# Altium footprint library Conn Receptacle Single Row.PcbLib: 38 footprints (part 1 of 3)
Each footprint in its own frame and in the unit in brackets; x right, y up, seen from the top. Pads: shape width x height; smd on the part's side, far side on the other; paste and mask are expansions set on the pad; w line width, h text height; cw(c..) or ccw(c..) is an arc to the next point about the centre after c.
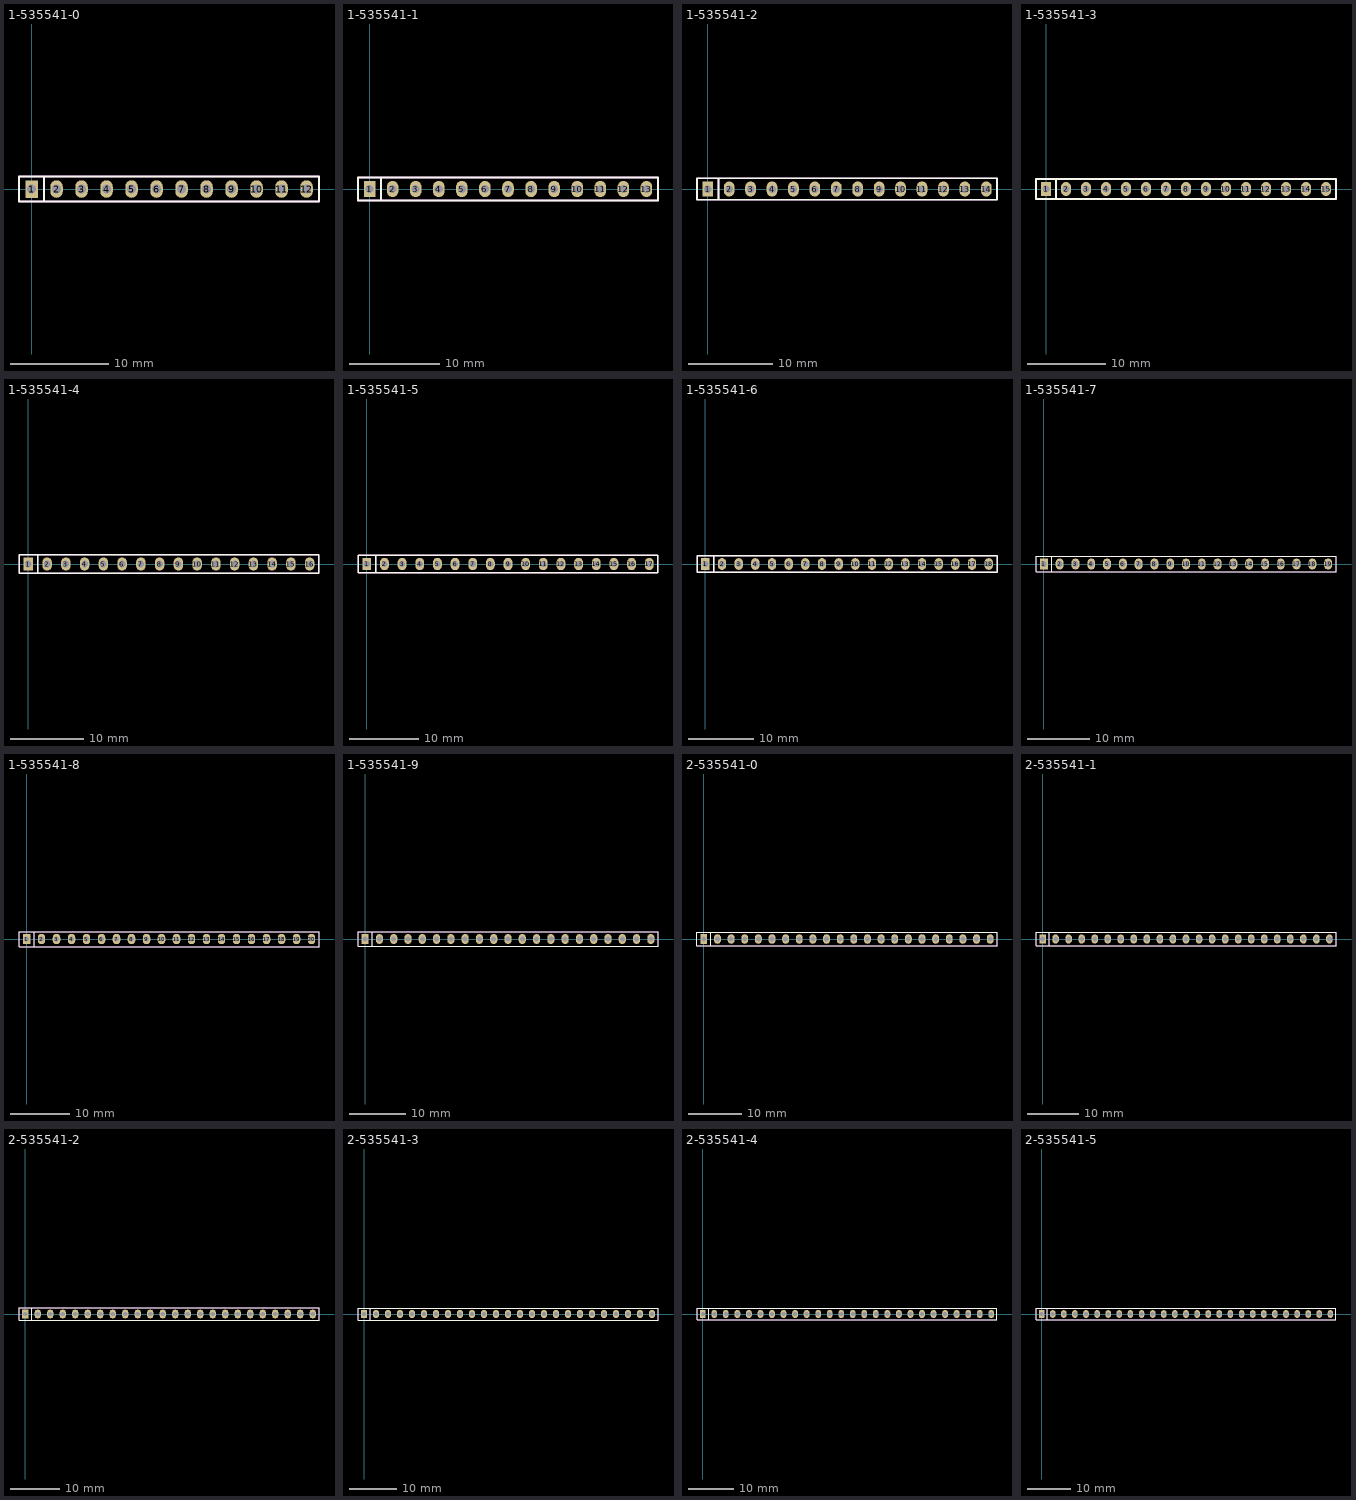
[diagram p0: the footprints below, top view; thin cyan lines are the x and y axes]

## 1-535541-0 [mil] "CONN Receptacle Single Row Gold"
pads (12):
  rect 50x70 hole 35: 1(0,0)
  oval 50x70 hole 35: 2(100,0) 3(200,0) 4(300,0) 5(400,0) 6(500,0) 7(600,0) 8(700,0) 9(800,0) 10(900,0) 11(1000,0) 12(1100,0)
Top Overlay:
  lines w7.87: 50,-50 50,50 ; -50,-50 -50,50 1150,50 1150,-50 -50,-50
Mechanical 1:
  lines w7.87: 50,-50 50,50 ; -50,-50 1150,-50 1150,50 -50,50 -50,-50

## 1-535541-1 [mil] "CONN Receptacle Single Row Gold"
pads (13):
  rect 50x70 hole 35: 1(0,0)
  oval 50x70 hole 35: 2(100,0) 3(200,0) 4(300,0) 5(400,0) 6(500,0) 7(600,0) 8(700,0) 9(800,0) 10(900,0) 11(1000,0) 12(1100,0) 13(1200,0)
Top Overlay:
  lines w7.87: 50,-50 50,50 ; -50,-50 1250,-50 1250,50 -50,50 -50,-50
Mechanical 1:
  lines w7.87: 50,-50 50,50 ; -50,-50 -50,50 1250,50 1250,-50 -50,-50

## 1-535541-2 [mil] "CONN Receptacle Single Row Gold"
pads (14):
  rect 50x70 hole 35: 1(0,0)
  oval 50x70 hole 35: 2(100,0) 3(200,0) 4(300,0) 5(400,0) 6(500,0) 7(600,0) 8(700,0) 9(800,0) 10(900,0) 11(1000,0) 12(1100,0) 13(1200,0) 14(1300,0)
Top Overlay:
  lines w7.87: 50,-50 50,50 ; -50,-50 1350,-50 1350,50 -50,50 -50,-50
Mechanical 1:
  lines w7.87: 50,-50 50,50 ; -50,-50 -50,50 1350,50 1350,-50 -50,-50

## 1-535541-3 [mil] "CONN Receptacle Single Row Gold"
pads (15):
  rect 50x70 hole 35: 1(0,0)
  oval 50x70 hole 35: 2(100,0) 3(200,0) 4(300,0) 5(400,0) 6(500,0) 7(600,0) 8(700,0) 9(800,0) 10(900,0) 11(1000,0) 12(1100,0) 13(1200,0) 14(1300,0) 15(1400,0)
Top Overlay:
  lines w7.87: 50,-50 50,50 ; -50,-50 -50,50 1450,50 1450,-50 -50,-50
Mechanical 1:
  lines w7.87: 50,-50 50,50 ; -50,-50 1450,-50 1450,50 -50,50 -50,-50

## 1-535541-4 [mil] "CONN Receptacle Single Row Gold"
pads (16):
  rect 50x70 hole 35: 1(0,0)
  oval 50x70 hole 35: 2(100,0) 3(200,0) 4(300,0) 5(400,0) 6(500,0) 7(600,0) 8(700,0) 9(800,0) 10(900,0) 11(1000,0) 12(1100,0) 13(1200,0) 14(1300,0) 15(1400,0) 16(1500,0)
Top Overlay:
  lines w7.87: 50,-50 50,50 ; -50,-50 1550,-50 1550,50 -50,50 -50,-50
Mechanical 1:
  lines w7.87: 50,-50 50,50 ; -50,-50 -50,50 1550,50 1550,-50 -50,-50

## 1-535541-5 [mil] "CONN Receptacle Single Row Gold"
pads (17):
  rect 50x70 hole 35: 1(0,0)
  oval 50x70 hole 35: 2(100,0) 3(200,0) 4(300,0) 5(400,0) 6(500,0) 7(600,0) 8(700,0) 9(800,0) 10(900,0) 11(1000,0) 12(1100,0) 13(1200,0) 14(1300,0) 15(1400,0) 16(1500,0) 17(1600,0)
Top Overlay:
  lines w7.87: 50,-50 50,50 ; -50,-50 -50,50 1650,50 1650,-50 -50,-50
Mechanical 1:
  lines w7.87: 50,-50 50,50 ; -50,-50 1650,-50 1650,50 -50,50 -50,-50

## 1-535541-6 [mil] "CONN Receptacle Single Row Gold"
pads (18):
  rect 50x70 hole 35: 1(0,0)
  oval 50x70 hole 35: 2(100,0) 3(200,0) 4(300,0) 5(400,0) 6(500,0) 7(600,0) 8(700,0) 9(800,0) 10(900,0) 11(1000,0) 12(1100,0) 13(1200,0) 14(1300,0) 15(1400,0) 16(1500,0) 17(1600,0) 18(1700,0)
Top Overlay:
  lines w7.87: 50,-50 50,50 ; -50,-50 1750,-50 1750,50 -50,50 -50,-50
Mechanical 1:
  lines w7.87: 50,-50 50,50 ; -50,-50 -50,50 1750,50 1750,-50 -50,-50

## 1-535541-7 [mil] "CONN Receptacle Single Row Gold"
pads (19):
  rect 50x70 hole 35: 1(0,0)
  oval 50x70 hole 35: 2(100,0) 3(200,0) 4(300,0) 5(400,0) 6(500,0) 7(600,0) 8(700,0) 9(800,0) 10(900,0) 11(1000,0) 12(1100,0) 13(1200,0) 14(1300,0) 15(1400,0) 16(1500,0) 17(1600,0) 18(1700,0) 19(1800,0)
Top Overlay:
  lines w7.87: 50,-50 50,50 ; -50,-50 1850,-50 1850,50 -50,50 -50,-50
Mechanical 1:
  lines w7.87: 50,-50 50,50 ; -50,-50 -50,50 1850,50 1850,-50 -50,-50

## 1-535541-8 [mil] "CONN Receptacle Single Row Gold"
pads (20):
  rect 50x70 hole 35: 1(0,0)
  oval 50x70 hole 35: 2(100,0) 3(200,0) 4(300,0) 5(400,0) 6(500,0) 7(600,0) 8(700,0) 9(800,0) 10(900,0) 11(1000,0) 12(1100,0) 13(1200,0) 14(1300,0) 15(1400,0) 16(1500,0) 17(1600,0) 18(1700,0) 19(1800,0) 20(1900,0)
Top Overlay:
  lines w7.87: 50,-50 50,50 ; -50,-50 -50,50 1950,50 1950,-50 -50,-50
Mechanical 1:
  lines w7.87: 50,-50 50,50 ; -50,-50 1950,-50 1950,50 -50,50 -50,-50

## 1-535541-9 [mil] "CONN Receptacle Single Row Gold"
pads (21):
  rect 50x70 hole 35: 1(0,0)
  oval 50x70 hole 35: 2(100,0) 3(200,0) 4(300,0) 5(400,0) 6(500,0) 7(600,0) 8(700,0) 9(800,0) 10(900,0) 11(1000,0) 12(1100,0) 13(1200,0) 14(1300,0) 15(1400,0) 16(1500,0) 17(1600,0) 18(1700,0) 19(1800,0) 20(1900,0) 21(2000,0)
Top Overlay:
  lines w7.87: 50,-50 50,50 ; -50,-50 2050,-50 2050,50 -50,50 -50,-50
Mechanical 1:
  lines w7.87: 50,-50 50,50 ; -50,-50 -50,50 2050,50 2050,-50 -50,-50

## 2-535541-0 [mil] "CONN Receptacle Single Row Gold"
pads (22):
  rect 50x70 hole 35: 1(0,0)
  oval 50x70 hole 35: 2(100,0) 3(200,0) 4(300,0) 5(400,0) 6(500,0) 7(600,0) 8(700,0) 9(800,0) 10(900,0) 11(1000,0) 12(1100,0) 13(1200,0) 14(1300,0) 15(1400,0) 16(1500,0) 17(1600,0) 18(1700,0) 19(1800,0) 20(1900,0) 21(2000,0) 22(2100,0)
Top Overlay:
  lines w7.87: 50,-50 50,50 ; -50,-50 2150,-50 2150,50 -50,50 -50,-50
Mechanical 1:
  lines w7.87: 50,-50 50,50 ; -50,-50 -50,50 2150,50 2150,-50 -50,-50

## 2-535541-1 [mil] "CONN Receptacle Single Row Gold"
pads (23):
  rect 50x70 hole 35: 1(0,0)
  oval 50x70 hole 35: 2(100,0) 3(200,0) 4(300,0) 5(400,0) 6(500,0) 7(600,0) 8(700,0) 9(800,0) 10(900,0) 11(1000,0) 12(1100,0) 13(1200,0) 14(1300,0) 15(1400,0) 16(1500,0) 17(1600,0) 18(1700,0) 19(1800,0) 20(1900,0) 21(2000,0) 22(2100,0) 23(2200,0)
Top Overlay:
  lines w7.87: 50,-50 50,50 ; -50,-50 2250,-50 2250,50 -50,50 -50,-50
Mechanical 1:
  lines w7.87: 50,-50 50,50 ; -50,-50 -50,50 2250,50 2250,-50 -50,-50

## 2-535541-2 [mil] "CONN Receptacle Single Row Gold"
pads (24):
  rect 50x70 hole 35: 1(0,0)
  oval 50x70 hole 35: 2(100,0) 3(200,0) 4(300,0) 5(400,0) 6(500,0) 7(600,0) 8(700,0) 9(800,0) 10(900,0) 11(1000,0) 12(1100,0) 13(1200,0) 14(1300,0) 15(1400,0) 16(1500,0) 17(1600,0) 18(1700,0) 19(1800,0) 20(1900,0) 21(2000,0) 22(2100,0) 23(2200,0) 24(2300,0)
Top Overlay:
  lines w7.87: 50,-50 50,50 ; -50,-50 -50,50 2350,50 2350,-50 -50,-50
Mechanical 1:
  lines w7.87: 50,-50 50,50 ; -50,-50 2350,-50 2350,50 -50,50 -50,-50

## 2-535541-3 [mil] "CONN Receptacle Single Row Gold"
pads (25):
  rect 50x70 hole 35: 1(0,0)
  oval 50x70 hole 35: 2(100,0) 3(200,0) 4(300,0) 5(400,0) 6(500,0) 7(600,0) 8(700,0) 9(800,0) 10(900,0) 11(1000,0) 12(1100,0) 13(1200,0) 14(1300,0) 15(1400,0) 16(1500,0) 17(1600,0) 18(1700,0) 19(1800,0) 20(1900,0) 21(2000,0) 22(2100,0) 23(2200,0) 24(2300,0) 25(2400,0)
Top Overlay:
  lines w7.87: 50,-50 50,50 ; -50,-50 2450,-50 2450,50 -50,50 -50,-50
Mechanical 1:
  lines w7.87: 50,-50 50,50 ; -50,-50 -50,50 2450,50 2450,-50 -50,-50

## 2-535541-4 [mil] "CONN Receptacle Single Row Gold"
pads (26):
  rect 50x70 hole 35: 1(0,0)
  oval 50x70 hole 35: 2(100,0) 3(200,0) 4(300,0) 5(400,0) 6(500,0) 7(600,0) 8(700,0) 9(800,0) 10(900,0) 11(1000,0) 12(1100,0) 13(1200,0) 14(1300,0) 15(1400,0) 16(1500,0) 17(1600,0) 18(1700,0) 19(1800,0) 20(1900,0) 21(2000,0) 22(2100,0) 23(2200,0) 24(2300,0) 25(2400,0) 26(2500,0)
Top Overlay:
  lines w7.87: 50,-50 50,50 ; -50,-50 -50,50 2550,50 2550,-50 -50,-50
Mechanical 1:
  lines w7.87: 50,-50 50,50 ; -50,-50 2550,-50 2550,50 -50,50 -50,-50

## 2-535541-5 [mil] "CONN Receptacle Single Row Gold"
pads (27):
  rect 50x70 hole 35: 1(0,0)
  oval 50x70 hole 35: 2(100,0) 3(200,0) 4(300,0) 5(400,0) 6(500,0) 7(600,0) 8(700,0) 9(800,0) 10(900,0) 11(1000,0) 12(1100,0) 13(1200,0) 14(1300,0) 15(1400,0) 16(1500,0) 17(1600,0) 18(1700,0) 19(1800,0) 20(1900,0) 21(2000,0) 22(2100,0) 23(2200,0) 24(2300,0) 25(2400,0) 26(2500,0) 27(2600,0)
Top Overlay:
  lines w7.87: 50,-50 50,50 ; -50,-50 2650,-50 2650,50 -50,50 -50,-50
Mechanical 1:
  lines w7.87: 50,-50 50,50 ; -50,-50 -50,50 2650,50 2650,-50 -50,-50